# Altium footprint library panasonic.PcbLib: 22 footprints (part 1 of 2)
Each footprint in its own frame and in the unit in brackets; x right, y up, seen from the top. Pads: shape width x height; smd on the part's side, far side on the other; paste and mask are expansions set on the pad; w line width, h text height; cw(c..) or ccw(c..) is an arc to the next point about the centre after c.
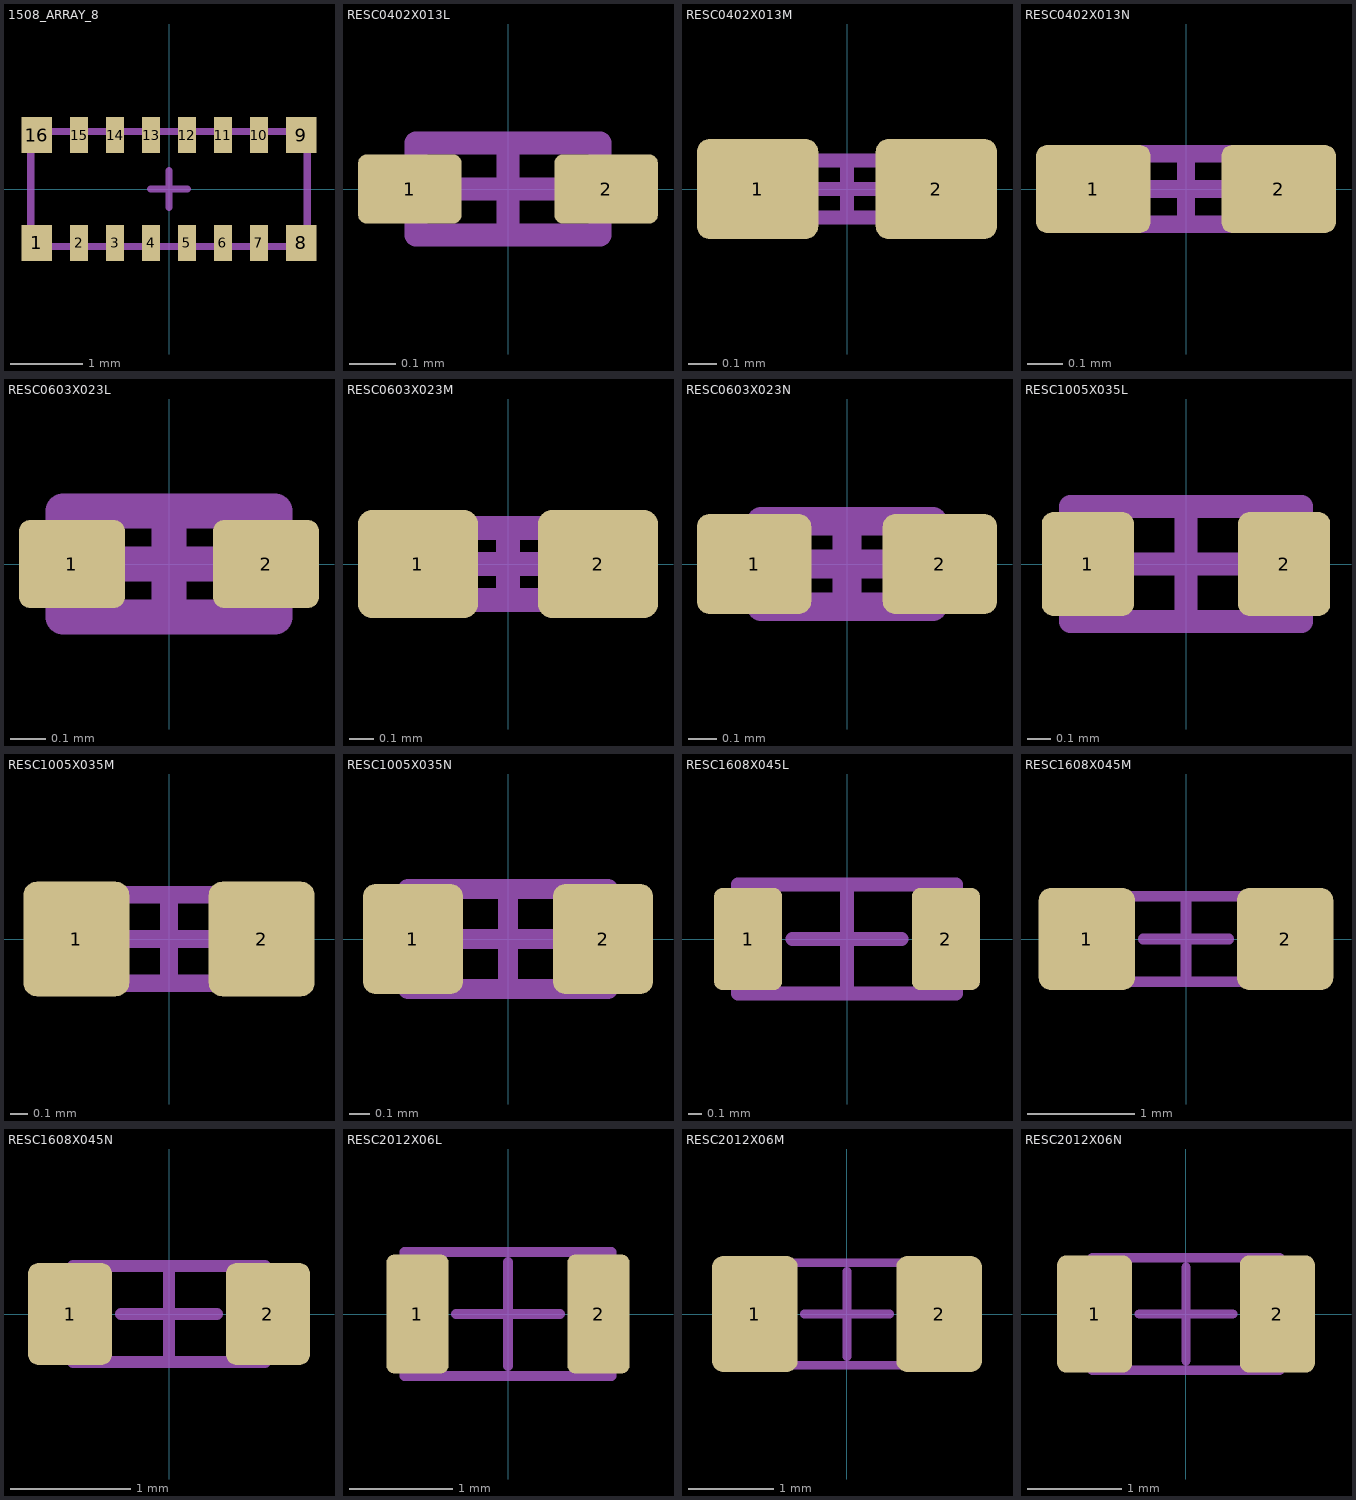
[diagram p0: the footprints below, top view; thin cyan lines are the x and y axes]

## 1508_ARRAY_8 [mm]
pads (16):
  rect 0.425x0.5 smd mask+0.05: 1(-1.837,-0.75) 8(1.837,-0.75) 9(1.837,0.75) 16(-1.837,0.75)
  rect 0.25x0.5 smd mask+0.05: 2(-1.25,-0.75) 3(-0.75,-0.75) 4(-0.25,-0.75) 5(0.25,-0.75) 6(0.75,-0.75) 7(1.25,-0.75) 10(1.25,0.75) 11(0.75,0.75) 12(0.25,0.75) 13(-0.25,0.75) 14(-0.75,0.75) 15(-1.25,0.75)
Mechanical 15:
  lines w0.1: -0.254,0 0.254,0 ; 0,-0.254 0,0.254 ; -1.925,-0.8 1.925,-0.8 1.925,0.8 -1.925,0.8 -1.925,-0.8
3D body "Res_Panasonic_EXB-2HV102JV_eec.STEP": height 0.55, standoff 0, extent -1.925,-0.8 1.925,0.8

## RESC0402X013L [mm] "Chip Resistor, 2-Leads, Body 0.40x0.20mm, IPC High Density"
height 0.13
pads (2):
  rrect25% 0.225x0.15 smd mask+0.05: 1(-0.213,0) 2(0.213,0)
Mechanical 15:
  lines w0.05: -0.1,0 0.1,0 ; 0,-0.1 0,0.1 ; -0.2,-0.1 0.2,-0.1 0.2,0.1 -0.2,0.1 -0.2,-0.1
3D body "RESC0402X01L.step": height 0.13, standoff 0, extent -0.2,-0.1 0.2,0.1

## RESC0402X013M [mm] "Chip Resistor, 2-Leads, Body 0.40x0.20mm, IPC Low Density"
height 0.13
pads (2):
  rrect25% 0.425x0.35 smd mask+0.05: 1(-0.313,0) 2(0.313,0)
Mechanical 15:
  lines w0.05: -0.1,0 0.1,0 ; 0,-0.1 0,0.1 ; -0.2,-0.1 0.2,-0.1 0.2,0.1 -0.2,0.1 -0.2,-0.1
3D body "RESC0402X01M.step": height 0.13, standoff 0, extent -0.2,-0.1 0.2,0.1

## RESC0402X013N [mm] "Chip Resistor, 2-Leads, Body 0.40x0.20mm, IPC Medium Density"
height 0.13
pads (2):
  rrect25% 0.325x0.25 smd mask+0.05: 1(-0.263,0) 2(0.263,0)
Mechanical 15:
  lines w0.05: -0.1,0 0.1,0 ; 0,-0.1 0,0.1 ; -0.2,-0.1 0.2,-0.1 0.2,0.1 -0.2,0.1 -0.2,-0.1
3D body "RESC0402X01N.step": height 0.13, standoff 0, extent -0.2,-0.1 0.2,0.1

## RESC0603X023L [mm] "Chip Resistor, 2-Leads, Body 0.60x0.30mm, IPC High Density"
height 0.23
pads (2):
  rrect25% 0.3x0.25 smd mask+0.05: 1(-0.275,0) 2(0.275,0)
Mechanical 15:
  lines w0.1: -0.15,0 0.15,0 ; 0,-0.15 0,0.15 ; -0.3,-0.15 0.3,-0.15 0.3,0.15 -0.3,0.15 -0.3,-0.15
3D body "RESC0603X02L.step": height 0.23, standoff 0, extent -0.3,-0.15 0.3,0.15

## RESC0603X023M [mm] "Chip Resistor, 2-Leads, Body 0.60x0.30mm, IPC Low Density"
height 0.23
pads (2):
  rrect25% 0.5x0.45 smd mask+0.05: 1(-0.375,0) 2(0.375,0)
Mechanical 15:
  lines w0.1: -0.15,0 0.15,0 ; 0,-0.15 0,0.15 ; -0.3,-0.15 0.3,-0.15 0.3,0.15 -0.3,0.15 -0.3,-0.15
3D body "RESC0603X02M.step": height 0.23, standoff 0, extent -0.3,-0.15 0.3,0.15

## RESC0603X023N [mm] "Chip Resistor, 2-Leads, Body 0.60x0.30mm, IPC Medium Density"
height 0.23
pads (2):
  rrect25% 0.4x0.35 smd mask+0.05: 1(-0.325,0) 2(0.325,0)
Mechanical 15:
  lines w0.1: -0.15,0 0.15,0 ; 0,-0.15 0,0.15 ; -0.3,-0.15 0.3,-0.15 0.3,0.15 -0.3,0.15 -0.3,-0.15
3D body "RESC0603X02N.step": height 0.23, standoff 0, extent -0.3,-0.15 0.3,0.15

## RESC1005X035L [mm] "Chip Resistor, 2-Leads, Body 1.00x0.50mm, IPC High Density"
height 0.35
pads (2):
  rrect25% 0.4x0.45 smd mask+0.05: 1(-0.425,0) 2(0.425,0)
Mechanical 15:
  lines w0.1: -0.25,0 0.25,0 ; 0,-0.25 0,0.25 ; -0.5,-0.25 0.5,-0.25 0.5,0.25 -0.5,0.25 -0.5,-0.25
3D body "RESC1005X04L.step": height 0.35, standoff 0, extent -0.5,-0.25 0.5,0.25

## RESC1005X035M [mm] "Chip Resistor, 2-Leads, Body 1.00x0.50mm, IPC Low Density"
height 0.35
pads (2):
  rrect25% 0.6x0.65 smd mask+0.05: 1(-0.525,0) 2(0.525,0)
Mechanical 15:
  lines w0.1: -0.25,0 0.25,0 ; 0,-0.25 0,0.25 ; -0.5,-0.25 0.5,-0.25 0.5,0.25 -0.5,0.25 -0.5,-0.25
3D body "RESC1005X04M.step": height 0.35, standoff 0, extent -0.5,-0.25 0.5,0.25

## RESC1005X035N [mm] "Chip Resistor, 2-Leads, Body 1.00x0.50mm, IPC Medium Density"
height 0.35
pads (2):
  rrect25% 0.5x0.55 smd mask+0.05: 1(-0.475,0) 2(0.475,0)
Mechanical 15:
  lines w0.1: -0.25,0 0.25,0 ; 0,-0.25 0,0.25 ; -0.5,-0.25 0.5,-0.25 0.5,0.25 -0.5,0.25 -0.5,-0.25
3D body "RESC1005X04N.step": height 0.35, standoff 0, extent -0.5,-0.25 0.5,0.25

## RESC1608X045L [mm] "Chip Resistor, 2-Leads, Body 1.60x0.80mm, IPC High Density"
height 0.45
pads (2):
  rrect25% 0.5x0.75 smd mask+0.05: 1(-0.725,0) 2(0.725,0)
Mechanical 15:
  lines w0.1: -0.4,0 0.4,0 ; 0,-0.4 0,0.4 ; -0.8,-0.4 0.8,-0.4 0.8,0.4 -0.8,0.4 -0.8,-0.4
3D body "RESC1608X04L.step": height 0.45, standoff 0, extent -0.8,-0.4 0.8,0.4

## RESC1608X045M [mm] "Chip Resistor, 2-Leads, Body 1.60x0.80mm, IPC Low Density"
height 0.45
pads (2):
  rrect25% 0.9x0.95 smd mask+0.05: 1(-0.925,0) 2(0.925,0)
Mechanical 15:
  lines w0.1: -0.4,0 0.4,0 ; 0,-0.4 0,0.4 ; -0.8,-0.4 -0.8,0.4 0.8,0.4 0.8,-0.4 -0.8,-0.4
3D body "RESC1608X04M.step": height 0.45, standoff 0, extent -0.8,-0.4 0.8,0.4

## RESC1608X045N [mm] "Chip Resistor, 2-Leads, Body 1.60x0.80mm, IPC Medium Density"
height 0.45
pads (2):
  rrect25% 0.7x0.85 smd mask+0.05: 1(-0.825,0) 2(0.825,0)
Mechanical 15:
  lines w0.1: -0.4,0 0.4,0 ; 0,-0.4 0,0.4 ; -0.8,-0.4 -0.8,0.4 0.8,0.4 0.8,-0.4 -0.8,-0.4
3D body "RESC1608X04N.step": height 0.45, standoff 0, extent -0.8,-0.4 0.8,0.4

## RESC2012X06L [mm] "Chip Resistor, 2-Leads, Body 2.00x1.20mm, IPC High Density"
height 0.6
pads (2):
  rrect25% 0.6x1.15 smd mask+0.05: 1(-0.875,0) 2(0.875,0)
Mechanical 15:
  lines w0.1: -0.5,0 0.5,0 ; 0,-0.5 0,0.5 ; -1,-0.6 1,-0.6 1,0.6 -1,0.6 -1,-0.6
3D body "RESC2012X06L.step": height 0.6, standoff 0, extent -1,-0.6 1,0.6

## RESC2012X06M [mm] "Chip Resistor, 2-Leads, Body 2.00x1.20mm, IPC Low Density"
height 0.6
pads (2):
  rrect25% 1x1.35 smd mask+0.05: 1(-1.075,0) 2(1.075,0)
Mechanical 15:
  lines w0.1: -0.5,0 0.5,0 ; 0,-0.5 0,0.5 ; -1,-0.6 -1,0.6 1,0.6 1,-0.6 -1,-0.6
3D body "RESC2012X06M.step": height 0.6, standoff 0, extent -1,-0.6 1,0.6

## RESC2012X06N [mm] "Chip Resistor, 2-Leads, Body 2.00x1.20mm, IPC Medium Density"
height 0.6
pads (2):
  rrect25% 0.8x1.25 smd mask+0.05: 1(-0.975,0) 2(0.975,0)
Mechanical 15:
  lines w0.1: -0.5,0 0.5,0 ; 0,-0.5 0,0.5 ; -1,-0.6 -1,0.6 1,0.6 1,-0.6 -1,-0.6
3D body "RESC2012X06N.step": height 0.6, standoff 0, extent -1,-0.6 1,0.6